# EAGLE library part FSUSB42 (library airball)
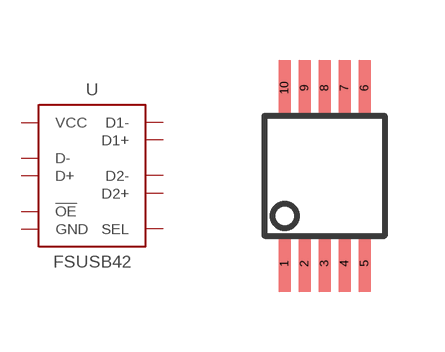
[diagram p14: symbol with the pads of MSOP10; footprint MSOP10]

Designator prefix U

## FSUSB42  [MSOP10]
1  VCC
2  SEL
3  D+
4  D-
5  GND
6  D1-
7  D1+
8  D2-
9  D2+
10  !OE

## Footprint MSOP10 (pad centres in mm)
Molded Small Outline Plastic 10 (3mm x 3mm, 0.5mm pitch) http://www.onsemi.com/pub/Collateral/FSUSB42-D.PDF
smd 0.3 x 1.4: 1 -1,-2.2; 2 -0.5,-2.2; 3 0,-2.2; 4 0.5,-2.2; 5 1,-2.2; 6 1,2.2; 7 0.5,2.2; 8 0,2.2; 9 -0.5,2.2; 10 -1,2.2